# Altium footprint library DO-214AA.PcbLib: 1 footprints
Each footprint in its own frame and in the unit in brackets; x right, y up, seen from the top. Pads: shape width x height; smd on the part's side, far side on the other; paste and mask are expansions set on the pad; w line width, h text height; cw(c..) or ccw(c..) is an arc to the next point about the centre after c.
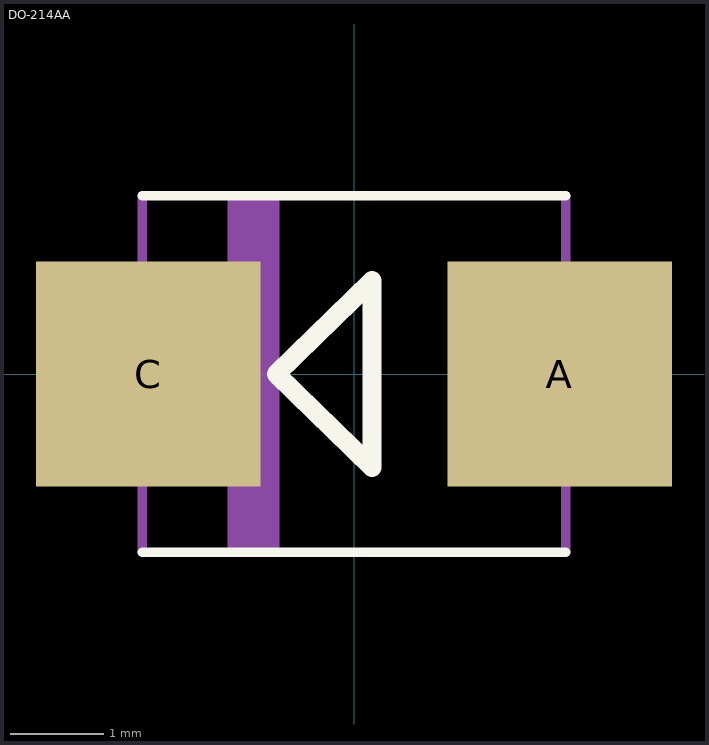
[diagram p0: the footprint, top view; thin cyan lines are the x and y axes]

## DO-214AA [mm]
pads (2):
  rect 2.4x2.4 smd: A(2.2,0) C(-2.2,0)
Top Overlay:
  lines w0.102: -2.261,-1.905 2.261,-1.905 ; -2.261,1.905 2.261,1.905
  lines w0.203: -0.83,0 0.193,1 0.193,-1 -0.83,0
Mechanical 13:
  region: -2.261,-1.094 -2.798,-1.094 -2.798,1.092 -2.261,1.092
  region: 2.794,-1.094 2.265,-1.094 2.265,1.092 2.794,1.092
  region: -0.8,-1.902 -1.352,-1.902 -1.352,1.9 -0.8,1.9
  lines w0.102: -2.261,-1.905 -2.261,1.905 ; 2.261,-1.905 2.261,1.905